# Altium integrated library TI_Analog_to_Digital_Converters_Precision_ADC.IntLib: 1 symbol
Pins are listed as number, name and electrical type; pins without a type are passive.

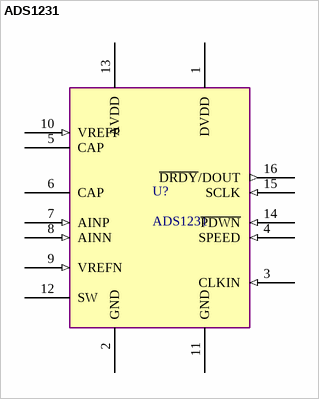
[diagram p0: symbol ADS1231]

## ADS1231
designator U?
24-Bit Analog-to-Digital Converter for Bridge Sensors; Supplier 1: Mouser; Supplier Part Number 1: 595-ADS1231IDR; ComponentLink1Description: Datasheet; ComponentLink1URL: http://www.ti.com/lit/ds/symlink/ads1231.pdf; Created: 18-09-2018; Modificated: 18-09-2017
footprint SOIC127P1000X286-16 (IPC-7351C for ADS1321)
pins: 1 DVDD (power) "Digital power supply", 2 GND (power) "Ground for digital and analog supplies", 3 CLKIN (in) "External clock input: typically 4.9152MHz. Tie low to activate internal oscillator", 4 SPEED (in) "Data rate select", 5 CAP "Gain amplifier bypass capacitor connection", 6 CAP "Gain amplifier bypass capacitor connection", 7 AINP (in) "Positive analog input", 8 AINN (in) "Negative analog input", 9 VREFN (in) "Negative reference input", 10 VREFP (in) "Positive reference input", 11 GND (power) "Ground for digital and analog supplies", 12 SW "Low-side power switch", 13 AVDD (power) "Analog power supply", 14 ~{PDWN} (in) "Power-down: holding this pin low powers down the entire converter and resets the ADC", 15 SCLK (in) "Serial clock: clock out data on the rising edge. Also used to initiate Standby mode", 16 ~{DRDY}/DOUT (out) "Dual-purpose output. Data ready: indicates valid data by going low.  Data output: outputs data, MSB first, on the first rising edge of SCLK."